# Altium schematic symbol library TAS2505.SchLib: 1 symbol
Pins are listed as number, name and electrical type; pins without a type are passive.

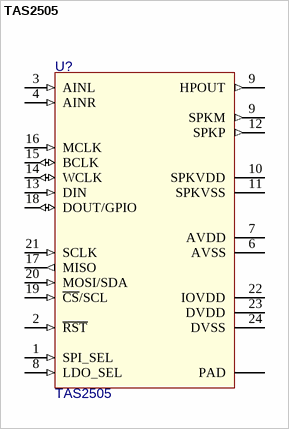
[diagram p0: symbol TAS2505]

## TAS2505
designator U?
Stereo Audio CODEC; Value: TAS2505
footprint QFN-24-4x4 (24-Pin Plastic Quad Flat No-Lead 0.5 mm Pitch, IPC Low Density)
pins: 1 SPI_SEL (in), 2 ~{RST} (in), 3 AINL (in), 4 AINR (in), 6 AVSS (power), 7 AVDD (power), 8 LDO_SEL (in), 9 SPKM (out), 9 HPOUT (out), 10 SPKVDD (power), 11 SPKVSS (power), 12 SPKP (out), 13 DIN (in), 14 WCLK (io), 15 BCLK (io), 16 MCLK (in), 17 MISO (out), 18 DOUT/GPIO (io), 19 ~{CS}/SCL (in), 20 MOSI/SDA (in), 21 SCLK (in), 22 IOVDD (power), 23 DVDD (power), 24 DVSS (power), 25 PAD